# EAGLE library part CAM-M8Q (library FSAE Electric)
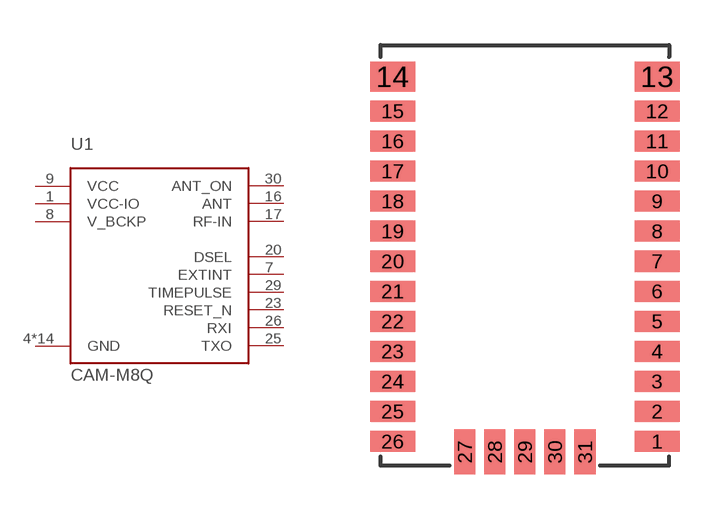
[diagram p18: symbol with the pads of CAM-M8Q; footprint CAM-M8Q]

Designator prefix U1

## CAM-M8Q  [CAM-M8Q]
1  VCC-IO
4  GND
5  GND
7  EXTINT
8  V_BCKP
9  VCC
10  GND
11  GND
12  GND
13  GND
14  GND
15  GND
16  ANT
17  RF-IN
18  GND
19  GND
20  DSEL
21  GND
22  GND
23  RESET_N
25  TXO
26  RXI
27  GND
29  TIMEPULSE
30  ANT_ON
31  GND

## Footprint CAM-M8Q (pad centres in mm)
smd 1.5 x 0.7: 1 4.4,0; 2 4.4,1; 3 4.4,2; 4 4.4,3; 5 4.4,4; 6 4.4,5; 7 4.4,6; 8 4.4,7; 9 4.4,8; 10 4.4,9; 11 4.4,10; 12 4.4,11; 15 -4.4,11; 16 -4.4,10; 17 -4.4,9; 18 -4.4,8; 19 -4.4,7; 20 -4.4,6; 21 -4.4,5; 22 -4.4,4; 23 -4.4,3; 24 -4.4,2; 25 -4.4,1; 26 -4.4,0
smd 1.5 x 1: 13 4.4,12.15; 14 -4.4,12.15
smd 0.7 x 1.5: 27 -2,-0.35; 28 -1,-0.35; 29 0,-0.35; 30 1,-0.35; 31 2,-0.35